# Altium schematic symbol library MC34063ABD-TR.SchLib: 1 symbol
Pins are listed as number, name and electrical type; pins without a type are passive.

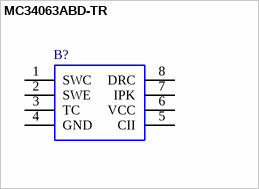
[diagram p0: symbol MC34063ABD-TR]

## MC34063ABD-TR
designator B?
MC34063ABD-TR, DC-DC Converter, Step Down, 8-Pin SOIC; Manufacturer_Name: STMicroelectronics; Geometry.Height: 1.75mm; Manufacturer_Part_Number: MC34063ABD-TR; Mouser Part Number: 511-MC34063ABD-TR; Mouser Price/Stock: https://www.mouser.co.uk/ProductDetail/STMicroelectronics/MC34063ABD-TR?qs=PGXP4M47uW4YbbaNPuFQGA%3D%3D; Arrow Part Number: MC34063ABD-TR; Arrow Price/Stock: https://www.arrow.com/en/products/mc34063abd-tr/stmicroelectronics?region=nac; Mouser Testing Part Number: *; Mouser Testing Price/Stock: *; Datasheet Link: http://www.st.com/st-web-ui/static/active/en/resource/technical/document/datasheet/CD00001232.pdf
footprint SOIC127P600X175-8N
pins: 1 SWC, 2 SWE, 3 TC, 4 GND, 5 CII, 6 VCC, 7 IPK, 8 DRC